# EAGLE library part MY_FTDI_CONVERTER (library smylbr)
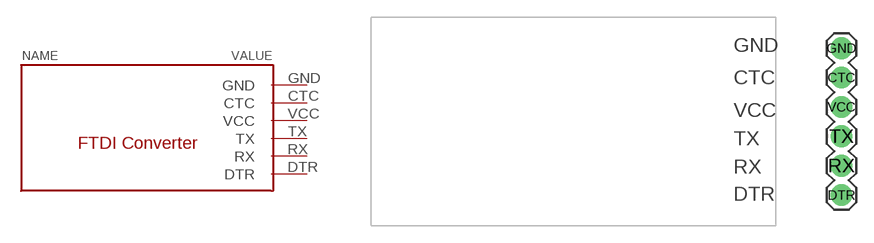
[diagram p2: symbol with the pads of FTDI_CONVERTER; footprint FTDI_CONVERTER]

Designator prefix -

## MY_FTDI_CONVERTER  [FTDI_CONVERTER]
CTC  CTC
DTR  DTR
GND  GND
RX  RX
TX  TX
VCC  VCC

## Footprint FTDI_CONVERTER (pad centres in mm)
drill 1.016 pad 1.88: CTC 24.135,2.295; DTR 24.135,-7.865; GND 24.135,4.835; RX 24.135,-5.325; TX 24.135,-2.785; VCC 24.135,-0.245